# Altium schematic symbol library Activ.SchLib: 1 symbol
Pins are listed as number, name and electrical type; pins without a type are passive.

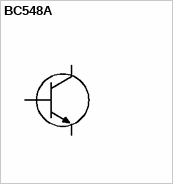
[diagram p0: symbol BC548A]

## BC548A
designator VT
BC548A, Транзистор NPN 30В 0.1А
footprint TO-92 (VT)
pins: B, E, K